# Altium footprint library UBCSolar.PCBLIB: 94 footprints (part 1 of 6)
Each footprint in its own frame and in the unit in brackets; x right, y up, seen from the top. Pads: shape width x height; smd on the part's side, far side on the other; paste and mask are expansions set on the pad; w line width, h text height; cw(c..) or ccw(c..) is an arc to the next point about the centre after c.
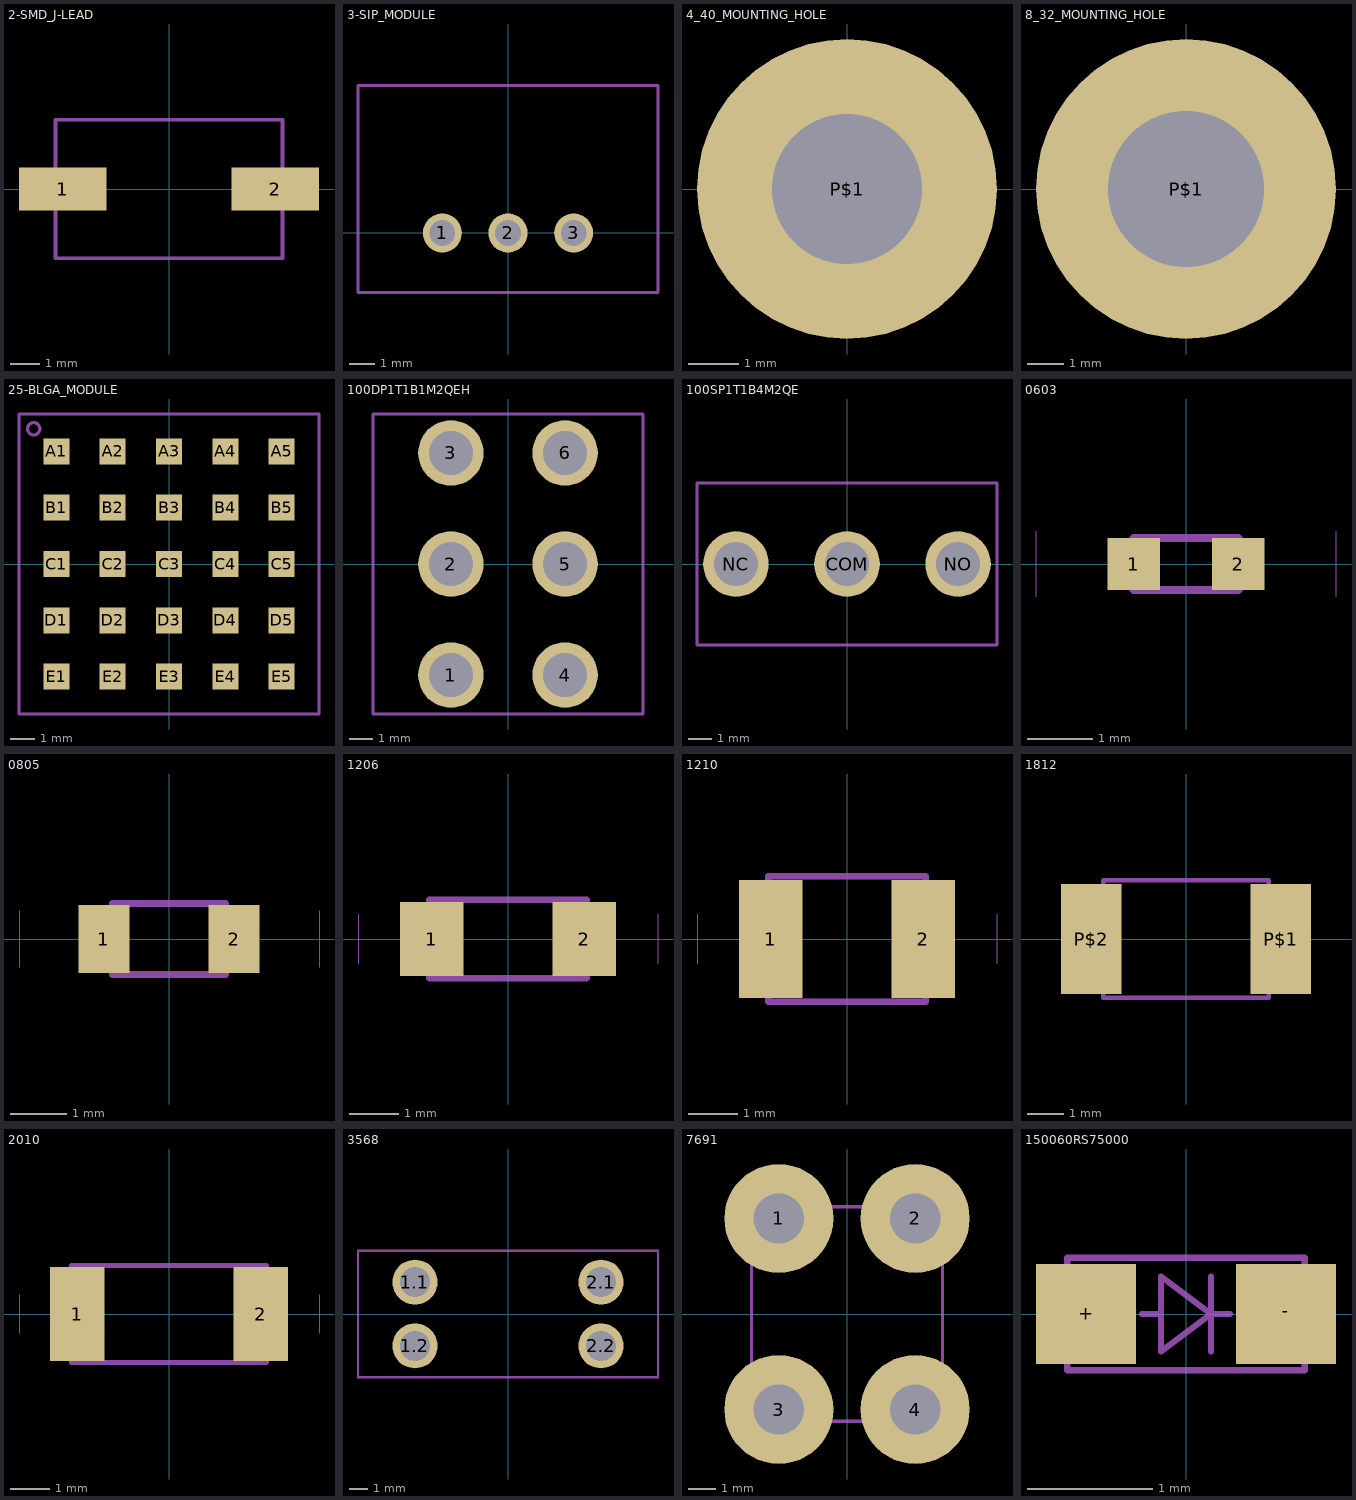
[diagram p0: the footprints below, top view; thin cyan lines are the x and y axes]

## 2-SMD_J-LEAD [mm]
pads (2):
  rect 3x1.47 smd: 1(-3.65,0) 2(3.65,0)
Top Assembly:
  lines w0.127: -3.9,-2.375 3.9,-2.375 3.9,2.375 -3.9,2.375 -3.9,-2.375

## 3-SIP_MODULE [mm]
pads (3):
  round 1.508 / inner round 1.524 / far side round 1.508 hole 1: 1(-2.54,0) 2(0,0) 3(2.54,0)
Top Assembly:
  lines w0.127: -5.8,-2.3 5.8,-2.3 5.8,5.7 -5.8,5.7 -5.8,-2.3

## 4_40_MOUNTING_HOLE [mm]
pads (1):
  round 6 / inner round 1.524 / far side round 6 hole 3: P$1(0,0)

## 8_32_MOUNTING_HOLE [mil]
pads (1):
  round 324.8 / inner round 60 / far side round 324.8 hole 169.29: P$1(0,0)

## 25-BLGA_MODULE [mil]
pads (25):
  rect 41.73x41.73 smd: A1(-180.32,180.32) A2(-90.16,180.32) A3(0,180.32) A4(90.16,180.32) A5(180.32,180.32) B1(-180.32,90.16) B2(-90.16,90.16) B3(0,90.16) B4(90.16,90.16) B5(180.32,90.16) C1(-180.32,0) C2(-90.16,0) C3(0,0) C4(90.16,0) C5(180.32,0) D1(-180.32,-90.16) D2(-90.16,-90.16) D3(0,-90.16) D4(90.16,-90.16) D5(180.32,-90.16) E1(-180.32,-180.32) E2(-90.16,-180.32) E3(0,-180.32) E4(90.16,-180.32) E5(180.32,-180.32)
Top Assembly:
  circle w5: c-216.54,216.54 r9.84
  lines w5: -240.16,-240.16 240.16,-240.16 240.16,240.16 -240.16,240.16 -240.16,-240.16

## 100DP1T1B1M2QEH [mm]
pads (6):
  round 2.775 / inner round 1.524 / far side round 2.775 hole 1.85: 1(-2.415,-4.7) 2(-2.415,0) 3(-2.415,4.7) 4(2.415,-4.7) 5(2.415,0) 6(2.415,4.7)
Top Assembly:
  lines w0.127: -5.715,-6.35 5.715,-6.35 5.715,6.35 -5.715,6.35 -5.715,-6.35

## 100SP1T1B4M2QE [mm]
pads (3):
  round 2.775 / inner round 1.524 / far side round 2.775 hole 1.85: COM(0,0) NC(-4.7,0) NO(4.7,0)
Top Assembly:
  lines w0.127: -6.35,-3.43 6.35,-3.43 6.35,3.43 -6.35,3.43 -6.35,-3.43

## 0603 [mil]
pads (2):
  rect 31.5x31.5 smd: 1(-31.5,0) 2(31.5,0)
Assembly Top:
  lines w0: -90.55,-19.69 -90.55,19.69 ; 90.55,-19.69 90.55,19.69
Top Assembly:
  lines w5: -31.5,-15.75 -31.5,15.75 31.5,15.75 31.5,-15.75 -31.5,-15.75

## 0805 [mil]
pads (2):
  rect 35.43x47.24 smd: 1(-45.28,0) 2(45.28,0)
Assembly Top:
  lines w0: -104.33,-19.69 -104.33,19.69 ; 104.33,-19.69 104.33,19.69
Top Assembly:
  lines w5: -39.37,-24.61 39.37,-24.61 39.37,24.61 -39.37,24.61 -39.37,-24.61

## 1206 [mil]
pads (2):
  rect 51.18x59.06 smd: 1(-61.02,0) 2(61.02,0)
Assembly Top:
  lines w0: -120.08,-19.69 -120.08,19.69 ; 120.08,-19.69 120.08,19.69
Top Assembly:
  lines w5: -62.99,-31.5 62.99,-31.5 62.99,31.5 -62.99,31.5 -62.99,-31.5

## 1210 [mil]
pads (2):
  rect 51.18x94.49 smd: 1(-61.02,0) 2(61.02,0)
Assembly Top:
  lines w0: -120.08,-19.69 -120.08,19.69 ; 120.08,-19.69 120.08,19.69
Top Assembly:
  lines w5: -62.99,-50.2 62.99,-50.2 62.99,50.2 -62.99,50.2 -62.99,-50.2

## 1812 [mm]
pads (2):
  rect 1.65x3 smd: P$1(2.575,0) P$2(-2.575,0)
Top Assembly:
  lines w0.127: -2.25,-1.6 -2.25,1.6 2.25,1.6 2.25,-1.6 -2.25,-1.6

## 2010 [mm]
pads (2):
  rect 1.4x2.4 smd: 1(-2.35,0) 2(2.35,0)
Assembly Top:
  lines w0: -3.85,-0.5 -3.85,0.5 ; 3.85,-0.5 3.85,0.5
Top Assembly:
  lines w0.127: -2.5,-1.25 2.5,-1.25 2.5,1.25 -2.5,1.25 -2.5,-1.25

## 3568 [mil]
pads (4):
  round 94.48 / inner round 60 / far side round 94.48 hole 62.99: 1.1(-195.28,66.93) 1.2(-195.28,-66.93) 2.1(195.28,66.93) 2.2(195.28,-66.93)
Top Assembly:
  lines w5: -314.96,-132.48 314.96,-132.48 314.96,132.48 -314.96,132.48 -314.96,-132.48

## 7691 [mm]
pads (4):
  round 4 / inner round 1.524 / far side round 4 hole 1.85: 1(-2.5,3.505) 2(2.5,3.505) 3(-2.5,-3.505) 4(2.5,-3.505)
Top Assembly:
  lines w0.127: -3.505,-3.935 3.505,-3.935 3.505,3.935 -3.505,3.935 -3.505,-3.935

## 150060RS75000 [mil]
pads (2):
  rect 31.5x31.5 smd: +(-31.5,0) -(31.5,0)
Top Assembly:
  lines w1.97: -13.78,0 -7.87,0 ; 7.87,-11.81 7.87,0 ; 7.87,11.81 7.87,0 ; 13.78,0 7.87,0 ; -7.87,0 -7.87,11.81 7.87,0 ; -7.87,0 -7.87,-11.81 7.87,0 ; -37.4,-17.72 37.4,-17.72 37.4,17.72 -37.4,17.72 -37.4,-17.72